# Altium footprint library MiniCircuits.PcbLib: 49 footprints (part 2 of 4)
Each footprint in its own frame and in the unit in brackets; x right, y up, seen from the top. Pads: shape width x height; smd on the part's side, far side on the other; paste and mask are expansions set on the pad; w line width, h text height; cw(c..) or ccw(c..) is an arc to the next point about the centre after c.
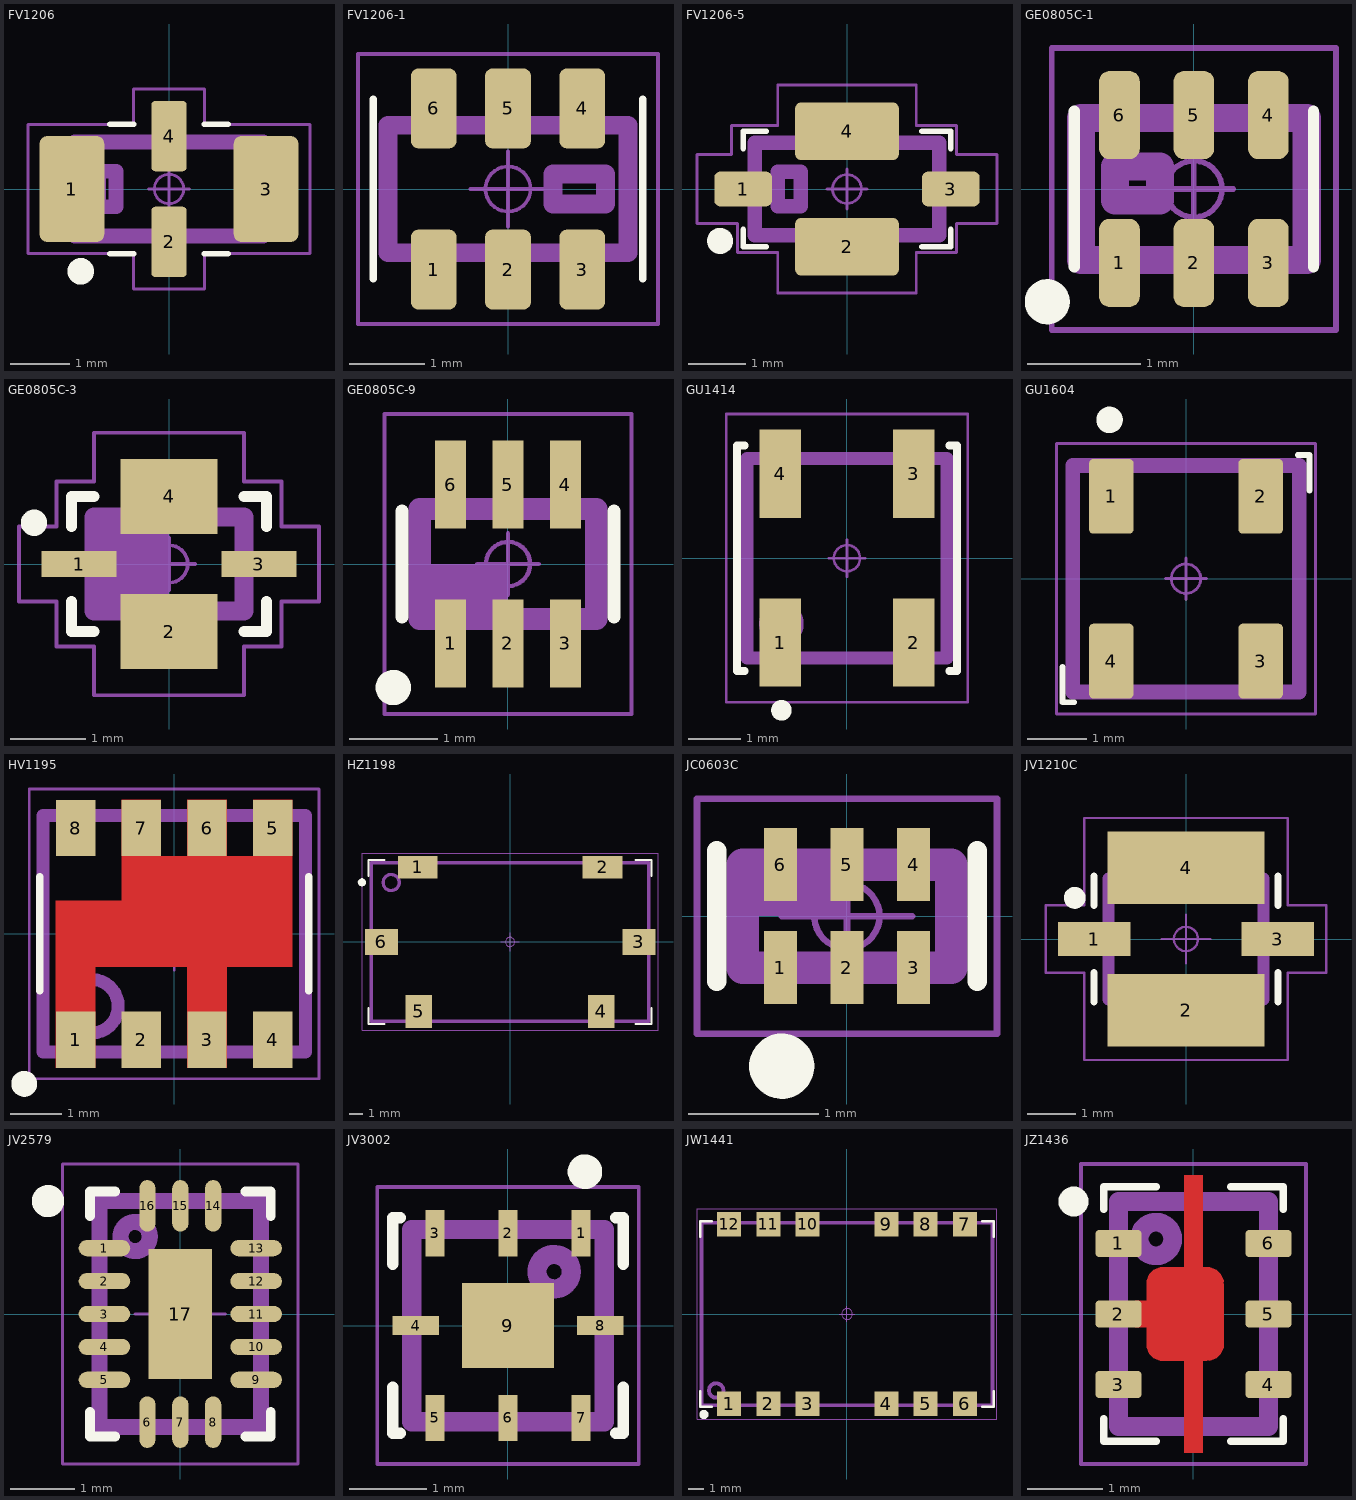
[diagram p1: the footprints below, top view; thin cyan lines are the x and y axes]

## FV1206 [mm] "Mini-Circuits case FV1206"
height 1
pads (4):
  rrect23% 1.1x1.8 smd: 1(-1.65,0) 3(1.65,0)
  rrect23% 0.6x1.2 smd: 2(0,-0.9) 4(0,0.9)
Top Overlay:
  circle w0.25: c-1.5,-1.4 r0.1
  lines w0.1: -1,-1.1 -0.6,-1.1 ; -1,1.1 -0.6,1.1 ; 0.6,-1.1 1,-1.1 ; 0.6,1.1 1,1.1
Top Assembly:
  lines w0.25: -1.6,-0.8 1.6,-0.8 1.6,0.8 -1.6,0.8 -1.6,-0.8 ; -1.2,-0.3 -1.2,0.3 -0.9,0.3 -0.9,-0.3 -1.2,-0.3
  text ".Designator" at -2.064,1.122 h1.5
Top Courtyard:
  circle w0.05: c0,0 r0.25
  lines w0.05: -0.35,0 0.35,0 ; 0,-0.35 0,0.35 ; -2.4,-1.1 -2.4,0 -2.4,1.1 -0.6,1.1 -0.6,1.7 0,1.7 0.6,1.7 0.6,1.1 2.4,1.1 2.4,0 2.4,-1.1 0.6,-1.1 0.6,-1.7 0,-1.7 -0.6,-1.7 -0.6,-1.1 -2.4,-1.1
3D body "CASE FV1206.STEP": height 0.94, standoff 0, extent -1.6,-0.8 1.6,0.8

## FV1206-1 [mm] "Mini-Circuits case FV1206-1"
height 1
pads (6):
  rrect33% 0.61x1.07 smd: 1(-0.99,-1.075) 2(0,-1.075) 3(0.99,-1.075) 4(0.99,1.075) 5(0,1.075) 6(-0.99,1.075)
Top Overlay:
  lines w0.1: -1.8,-1.2 -1.8,1.2 ; 1.8,-1.2 1.8,1.2
Top Assembly:
  lines w0.25: -1.6,-0.85 1.6,-0.85 1.6,0.85 -1.6,0.85 -1.6,-0.85 ; 0.6,-0.2 0.6,0.2 1.3,0.2 1.3,-0.2 0.6,-0.2
  text ".Designator" at -2.748,1.325 h1.5
Top Courtyard:
  circle w0.05: c0,0 r0.3
  lines w0.05: -0.5,0 0.5,0 ; 0,-0.5 0,0.5 ; -2,-1.8 2,-1.8 2,1.8 -2,1.8 -2,-1.8
3D body "CASE FV1206-1.STEP": height 1.05, standoff -0.05, extent -1.6,-0.85 1.6,0.85

## FV1206-5 [mm] "Mini-Circuits case FV1206-5"
height 1.35
pads (4):
  rrect33% 1x0.6 smd: 1(-1.8,0) 3(1.8,0)
  rrect20% 1.8x1 smd: 2(0,-1) 4(0,1)
Top Overlay:
  circle w0.25: c-2.2,-0.9 r0.1
  lines w0.1: -1.8,-0.7 -1.8,-1 -1.4,-1 ; -1.8,0.7 -1.8,1 -1.4,1 ; 1.3,-1 1.8,-1 1.8,-0.7 ; 1.3,1 1.8,1 1.8,0.7
Top Assembly:
  lines w0.25: -1.6,-0.8 1.6,-0.8 1.6,0.8 -1.6,0.8 -1.6,-0.8 ; -1.2,-0.3 -0.8,-0.3 -0.8,0.3 -1.2,0.3 -1.2,-0.3
  text ".Designator" at -2.691,1.299 h1.5
Top Courtyard:
  circle w0.05: c0,0 r0.25
  lines w0.05: -0.35,0 0.35,0 ; 0,-0.35 0,0.35 ; -2.6,-0.6 -1.9,-0.6 -1.9,-1.1 -1.2,-1.1 -1.2,-1.8 1.2,-1.8 1.2,-1.1 1.9,-1.1 1.9,-0.6 2.6,-0.6 2.6,0.6 1.9,0.6 1.9,1.1 1.2,1.1 1.2,1.8 -1.2,1.8 -1.2,1.1 -2,1.1 -2,0.6 -2.6,0.6 -2.6,-0.6
3D body "CASE FV1206-5.STEP": height 1.35, standoff 0, extent -1.6,-0.8 1.6,0.8

## GE0805C-1 [mm] "Mini-Circuits case GE0805C-1"
height 1.07
pads (6):
  rrect50% 0.36x0.78 smd: 1(-0.66,-0.655) 2(0,-0.655) 3(0.66,-0.655) 4(0.66,0.655) 5(0,0.655) 6(-0.66,0.655)
Top Overlay:
  circle w0.2: c-1.3,-1 r0.1
  lines w0.1: -1.06,-0.69 -1.06,0.69 ; 1.06,-0.69 1.06,0.69
Top Assembly:
  lines w0.25: -1,-0.63 1,-0.63 1,0.63 -1,0.63 -1,-0.63 ; -0.7,-0.1 -0.3,-0.1 -0.3,0.2 -0.7,0.2 -0.7,-0.1
  text ".Designator" at -2.272,1.146 h1.5
Top Courtyard:
  circle w0.05: c0,0 r0.25
  lines w0.05: -0.35,0 0.35,0 ; 0,-0.35 0,0.35 ; -1.26,-1.25 1.26,-1.25 1.26,1.25 -1.26,1.25 -1.26,-1.25
3D body "ICCAF6P66_200X125X107L25X30.STEP": height 1.07, standoff 0, extent -1,-0.675 1,0.675

## GE0805C-3 [mm] "Mini-Circuits case GE0805C-3"
height 0.95
pads (4):
  rect 1x0.35 smd: 1(-1.2,0) 3(1.2,0)
  rect 1.3x1 smd: 2(0,-0.9) 4(0,0.9)
Top Overlay:
  circle w0.25: c-1.8,0.55 r0.05
  lines w0.15: -1.3,-0.5 -1.3,-0.9 -1,-0.9 ; -1.3,0.5 -1.3,0.9 -1,0.9 ; 1,-0.9 1.3,-0.9 1.3,-0.5 ; 1,0.9 1.3,0.9 1.3,0.5
Top Assembly:
  rectangle: -1,-0.625 0,0.6
  lines w0.25: -1,-0.625 1,-0.625 1,0.625 -1,0.625 -1,-0.625
  text ".Designator" at -3.378,1.111 h1.5
Top Courtyard:
  circle w0.05: c0,0 r0.25
  lines w0.05: -0.35,0 0.35,0 ; 0,-0.35 0,0.35 ; -2,-0.5 -1.5,-0.5 -1.5,-1.1 -1,-1.1 -1,-1.75 1,-1.75 1,-1.1 1.5,-1.1 1.5,-0.5 2,-0.5 2,0.5 1.5,0.5 1.5,1.1 1,1.1 1,1.75 -1,1.75 -1,1.1 -1.5,1.1 -1.5,0.5 -2,0.5 -2,-0.5
3D body "CASE GE0805C-3.STEP": height 0.95, standoff 0, extent -1.05,-0.675 1.05,0.675

## GE0805C-9 [mm] "Mini-Circuits case GE0805C-9"
height 1
pads (6):
  rect 0.35x1 smd paste-2539.97: 1(-0.65,-0.9) 2(0,-0.9) 3(0.65,-0.9) 4(0.65,0.9) 5(0,0.9) 6(-0.65,0.9)
Top Overlay:
  circle w0.2: c-1.3,-1.4 r0.1
  lines w0.15: -1.2,-0.6 -1.2,0.6 ; 1.2,-0.6 1.2,0.6
Top Assembly:
  rectangle: -1,-0.625 0,0
  lines w0.25: -1,-0.625 1,-0.625 1,0.625 -1,0.625 -1,-0.625
  text ".Designator" at -3.378,1.161 h1.5
Top Courtyard:
  circle w0.05: c0,0 r0.25
  lines w0.05: -0.35,0 0.35,0 ; 0,-0.35 0,0.35 ; -1.4,-1.7 1.4,-1.7 1.4,1.7 -1.4,1.7 -1.4,-1.7
3D body "CASE GE0805C-9.STEP": height 0.95, standoff 0, extent -1,-0.675 1,0.675

## GU1414 [mm] "Mini-Circuits case GU1414"
height 3.56
pads (4):
  rect 0.79x1.68 smd: 1(-1.27,-1.61) 2(1.27,-1.61) 3(1.27,1.61) 4(-1.27,1.61)
Top Overlay:
  circle w0.25: c-1.25,-2.9 r0.071
  lines w0.15: -1.95,-2.15 -2.1,-2.15 -2.1,2.15 -1.95,2.15 ; 1.95,-2.15 2.1,-2.15 2.1,2.15 1.95,2.15
Top Assembly:
  circle w0.25: c-1.25,-1.25 r0.3
  lines w0.25: -1.905,-1.905 -1.905,1.905 1.905,1.905 1.905,-1.905 -1.905,-1.905
  text ".Designator" at -3.378,-0.339 h1.5
Top Courtyard:
  circle w0.05: c0,0 r0.25
  lines w0.05: -0.35,0 0.35,0 ; 0,-0.35 0,0.35 ; -2.3,-2.75 2.3,-2.75 2.3,2.75 -2.3,2.75 -2.3,-2.75
3D body "CASE GU1414.STEP": height 3.57, standoff 0.01, extent -1.905,-1.905 1.905,1.905

## GU1604 [mm] "Mini-Circuits case GU1604"
height 3.81
pads (4):
  rrect20% 0.76x1.27 smd: 1(-1.27,1.4) 2(1.27,1.4) 3(1.27,-1.4) 4(-1.27,-1.4)
Top Overlay:
  circle w0.25: c-1.3,2.7 r0.1
  lines w0.1: -2.1,-1.5 -2.1,-2.1 -1.9,-2.1 ; 1.9,2.1 2.1,2.1 2.1,1.5
Top Assembly:
  circle w0.25: c-1.3,1.3 r0.1
  lines w0.25: -1.925,-1.925 1.925,-1.925 1.925,1.925 -1.925,1.925 -1.925,-1.925
  text ".Designator" at -1.582,-0.42 h1.5
Top Courtyard:
  circle w0.05: c0,0 r0.25
  lines w0.05: -0.35,0 0.35,0 ; 0,-0.35 0,0.35 ; -2.2,-2.3 2.2,-2.3 2.2,2.3 -2.2,2.3 -2.2,-2.3
3D body "CASE GU1604.STEP": height 3.81, standoff 0, extent -1.905,-1.905 1.905,1.905

## HV1195 [mm] "Mini-Circuits CASE HV1195"
height 2.21
pads (8):
  rect 0.76x1.09 smd: 1(-1.905,-2.045) 2(-0.635,-2.045) 3(0.635,-2.045) 4(1.905,-2.045) 5(1.905,2.045) 6(0.635,2.045) 7(-0.635,2.045) 8(-1.905,2.045)
Top Layer:
  region: -1.525,-2.59 -1.525,-0.64 0.255,-0.64 0.255,-2.59 1.015,-2.59 1.015,-0.64 2.285,-0.64 2.285,2.59 1.525,2.59 1.525,1.5 1.015,1.5 1.015,2.59 0.255,2.59 0.255,1.5 -0.255,1.5 -0.255,2.59 -1.015,2.59 -1.015,0.64 -2.285,0.64 -2.285,-2.59
Top Overlay:
  circle w0.3: c-2.9,-2.9 r0.1
  lines w0.15: -2.6,-1.1 -2.6,1.1 ; 2.6,-1.1 2.6,1.1
Top Assembly:
  circle w0.25: c-1.6,-1.4 r0.518
  lines w0.25: -2.54,-2.285 2.54,-2.285 2.54,2.285 -2.54,2.285 -2.54,-2.285
  text ".Designator" at -1.9,-0.318 h1.5
Top Courtyard:
  circle w0.05: c0,0 r0.35
  lines w0.05: -0.7,0 0.7,0 ; 0,-0.7 0,0.7 ; -2.8,-2.8 2.8,-2.8 2.8,2.8 -2.8,2.8 -2.8,-2.8
3D body "CASE HV1195.STEP": height 2.21, standoff 0, extent -2.54,-2.285 2.54,2.285

## HZ1198 [mm] "Mini-Circuits CASE HZ1198"
height 5.6
pads (6):
  rect 3x1.7 smd: 1(-7,5.65) 2(7,5.65)
  rect 2.5x2 smd: 3(9.75,0) 6(-9.75,0)
  rect 2x2.5 smd: 4(6.9,-5.25) 5(-6.9,-5.25)
Top Overlay:
  region: -11.212,4.812 -11.272,4.812 -11.382,4.766 -11.466,4.682 -11.512,4.572 -11.512,4.452 -11.466,4.342 -11.382,4.258 -11.272,4.212 -11.152,4.212 -11.042,4.258 -10.958,4.342 -10.912,4.452 -10.912,4.512 -10.912,4.572 -10.958,4.682 -11.042,4.766 -11.152,4.812
  lines w0.15: -10.7,-5 -10.7,-6.2 -9.5,-6.2 ; -10.7,5 -10.7,6.2 -9.5,6.2 ; 9.5,-6.2 10.7,-6.2 10.7,-5 ; 9.5,6.2 10.7,6.2 10.7,5
Top Assembly:
  circle w0.25: c-9,4.5 r0.608
  lines w0.25: -10.5,-6 -10.5,6 10.5,6 10.5,-6 -10.5,-6
  text ".Designator" at -3.378,-0.339 h1.5
Top Courtyard:
  circle w0.05: c0,0 r0.35
  lines w0.05: -0.7,0 0.7,0 ; 0,-0.7 0,0.7 ; -11.2,-6.7 11.2,-6.7 11.2,6.7 -11.2,6.7 -11.2,-6.7
3D body "CASE HZ1198.STEP": height 5.6, standoff 0, extent -10.49,-5.995 10.49,5.995

## JC0603C [mm] "Mini-Circuits CASE JC0603C"
height 0.61
pads (6):
  rect 0.25x0.56 smd: 1(-0.51,-0.395) 2(0,-0.395) 3(0.51,-0.395) 4(0.51,0.395) 5(0,0.395) 6(-0.51,0.395)
Top Overlay:
  circle w0.3: c-0.5,-1.15 r0.1
  lines w0.15: -1,-0.5 -1,0.5 ; 1,-0.5 1,0.5
Top Assembly:
  rectangle: -0.8,0 0,0.395
  lines w0.25: -0.8,-0.395 0.8,-0.395 0.8,0.395 -0.8,0.395 -0.8,-0.395
  text ".Designator" at -3.378,0.861 h1.5
Top Courtyard:
  circle w0.05: c0,0 r0.25
  lines w0.05: -0.5,0 0.5,0 ; 0,-0.5 0,0.5 ; -1.15,-0.9 1.15,-0.9 1.15,0.9 -1.15,0.9 -1.15,-0.9
3D body "CASE JC0603C.STEP": height 0.61, standoff 0, extent -0.8,-0.445 0.8,0.445

## JV1210C [mm] "Mini-Circuits CASE JV1210C"
height 1.6
pads (4):
  rect 1.5x0.7 smd paste-2539.97: 1(-1.9,0) 3(1.9,0)
  rect 3.25x1.5 smd paste-2539.97: 2(0,-1.475) 4(0,1.475)
Top Overlay:
  circle w0.25: c-2.3,0.85 r0.1
  lines w0.15: -1.9,-1.3 -1.9,-0.7 ; -1.9,0.7 -1.9,1.3 ; 1.9,-1.3 1.9,-0.7 ; 1.9,0.7 1.9,1.3
Top Assembly:
  lines w0.25: -1.6,-1.25 1.6,-1.25 1.6,1.25 -1.6,1.25 -1.6,-1.25
  text ".Designator" at -3.378,-0.339 h1.5
Top Courtyard:
  circle w0.05: c0,0 r0.25
  lines w0.05: -0.5,0 0.5,0 ; 0,-0.5 0,0.5 ; -2.9,-0.7 -2.1,-0.7 -2.1,-2.5 2.1,-2.5 2.1,-0.7 2.9,-0.7 2.9,0.7 2.1,0.7 2.1,2.5 -2.1,2.5 -2.1,0.7 -2.9,0.7 -2.9,-0.7
3D body "CASE JV1210C.STEP": height 1.5, standoff 0, extent -1.6,-1.25 1.6,1.25

## JV2579 [mm] "Mini-Circuits CASE JV2579"
height 0.85
pads (17):
  oval 0.8x0.25 smd: 1(-1.175,1.02) 2(-1.175,0.51) 3(-1.175,0) 4(-1.175,-0.51) 5(-1.175,-1.02) 9(1.175,-1.02) 10(1.175,-0.51) 11(1.175,0) 12(1.175,0.51) 13(1.175,1.02)
  oval 0.25x0.8 smd: 6(-0.51,-1.675) 7(0,-1.675) 8(0.51,-1.675) 14(0.51,1.675) 15(0,1.675) 16(-0.51,1.675)
  rect 0.99x2.01 smd: 17(0,0)
Top Overlay:
  circle w0.25: c-2.05,1.75 r0.125
  lines w0.15: -1.4,-1.52 -1.4,-1.9 -1.01,-1.9 ; -1.4,1.52 -1.4,1.9 -1.01,1.9 ; 1.01,-1.9 1.4,-1.9 1.4,-1.52 ; 1.01,1.9 1.4,1.9 1.4,1.52
Top Assembly:
  circle w0.25: c-0.7,1.2 r0.226
  lines w0.25: -1.25,-1.75 1.25,-1.75 1.25,1.75 -1.25,1.75 -1.25,-1.75
  text ".Designator" at -3.378,-0.339 h1.5
Top Courtyard:
  circle w0.05: c0,0 r0.35
  lines w0.05: -0.7,0 0.7,0 ; 0,-0.7 0,0.7 ; -1.825,-2.325 1.825,-2.325 1.825,2.325 -1.825,2.325 -1.825,-2.325
3D body "JV2579.step": height 0.85, standoff 0, extent -1.251,-1.751 1.251,1.751

## JV3002 [mm] "Mini-Circuits case JV3002"
height 0.9
pads (9):
  rect 0.25x0.6 smd: 1(0.95,1.2) 2(0,1.2) 3(-0.95,1.2) 5(-0.95,-1.2) 6(0,-1.2) 7(0.95,-1.2)
  rect 0.6x0.25 smd: 4(-1.2,0) 8(1.2,0)
  rect 1.2x1.1 smd: 9(0,0)
Top Overlay:
  circle w0.25: c1,2 r0.1
  lines w0.15: -1.5,-0.8 -1.5,-1.4 -1.4,-1.4 ; -1.5,0.8 -1.5,1.4 -1.4,1.4 ; 1.4,-1.4 1.5,-1.4 1.5,-0.8 ; 1.4,1.4 1.5,1.4 1.5,0.8
Top Assembly:
  circle w0.25: c0.6,0.7 r0.224
  lines w0.25: -1.25,-1.25 1.25,-1.25 1.25,1.25 -1.25,1.25 -1.25,-1.25
  text ".Designator" at -3.378,-0.339 h1.5
Top Courtyard:
  circle w0.05: c0,0 r0.35
  lines w0.05: -0.5,0 0.5,0 ; 0,-0.5 0,0.5 ; -1.7,-1.8 1.7,-1.8 1.7,1.8 -1.7,1.8 -1.7,-1.8
3D body "CASE JV3002.STEP": height 0.9, standoff 0, extent -1.3,-1.3 1.3,1.3

## JW1441 [mm] "Mini-circuit JW1441"
height 4.9
pads (12):
  rect 1.55x1.6 smd: 1(-7.62,-5.8) 2(-5.08,-5.8) 3(-2.54,-5.8) 4(2.54,-5.8) 5(5.08,-5.8) 6(7.62,-5.8) 7(7.62,5.8) 8(5.08,5.8) 9(2.54,5.8) 10(-2.54,5.8) 11(-5.08,5.8) 12(-7.62,5.8)
Top Overlay:
  circle w0.3: c-9.25,-6.5 r0.15
  lines w0.15: -9.5,-5 -9.5,-6 -8.75,-6 ; -9.5,5 -9.5,6 -8.75,6 ; 8.75,-6 9.5,-6 9.5,-5 ; 8.75,6 9.5,6 9.5,5
Top Assembly:
  circle w0.25: c-8.46,-4.946 r0.465
  lines w0.25: -9.4,-5.9 -9.4,5.9 9.4,5.9 9.4,-5.9 -9.4,-5.9
  text ".Designator" at -3.553,-0.298 h1.5
Top Courtyard:
  circle w0.05: c0,0 r0.35
  lines w0.05: -0.5,0 0.5,0 ; 0,-0.5 0,0.5 ; -9.7,-6.8 9.7,-6.8 9.7,6.8 -9.7,6.8 -9.7,-6.8
3D body "CASE JW1441.STEP": height 4.83, standoff 0, extent -9.4,-5.9 9.4,5.9

## JZ1436 [mm] "Mini-Circuits case JZ1436"
height 0.89
pads (6):
  rrect25% 0.61x0.36 smd: 1(-1,0.94) 2(-1,0) 3(-1,-0.94) 4(1,-0.94) 5(1,0) 6(1,0.94)
Top Layer:
  region: -0.4,0.625 -0.125,0.625 -0.125,1.85 0.125,1.85 0.125,0.625 0.175,0.625 0.22,0.625 0.302,0.591 0.366,0.527 0.4,0.445 0.4,0.4 0.4,-0.4 0.4,-0.445 0.366,-0.527 0.302,-0.591 0.22,-0.625 0.175,-0.625 0.125,-0.625 0.125,-1.85 -0.125,-1.85 -0.125,-0.625 -0.4,-0.625 -0.445,-0.625 -0.528,-0.591 -0.591,-0.528 -0.625,-0.445 -0.625,-0.4 -0.625,-0.18 -0.776,-0.18 -0.776,0.18 -0.625,0.18 -0.625,0.4 -0.625,0.445 -0.591,0.527 -0.527,0.591 -0.445,0.625
Top Overlay:
  circle w0.2: c-1.6,1.5 r0.1
  lines w0.1: -1.2,-1.4 -1.2,-1.7 -0.5,-1.7 ; -1.2,1.4 -1.2,1.7 -0.5,1.7 ; 0.5,-1.7 1.2,-1.7 1.2,-1.4 ; 0.5,1.7 1.2,1.7 1.2,1.4
Top Assembly:
  circle w0.25: c-0.5,1 r0.224
  lines w0.25: -1,-1.5 1,-1.5 1,1.5 -1,1.5 -1,-1.5
  text ".Designator" at -2.494,2.096 h1.5
Top Courtyard:
  circle w0.05: c0,0 r0.25
  lines w0.05: -0.35,0 0.35,0 ; 0,-0.35 0,0.35 ; -1.5,-2 1.5,-2 1.5,2 -1.5,2 -1.5,-2
3D body "CASE JZ1436.STEP": height 0.89, standoff -0.05, extent -1.125,-1.625 1.125,1.625